# EAGLE library part ARDUINO_MEGA_R3_SHORT1 (library Dennistries-Josh)
Arduino Mega R3 Short Shield
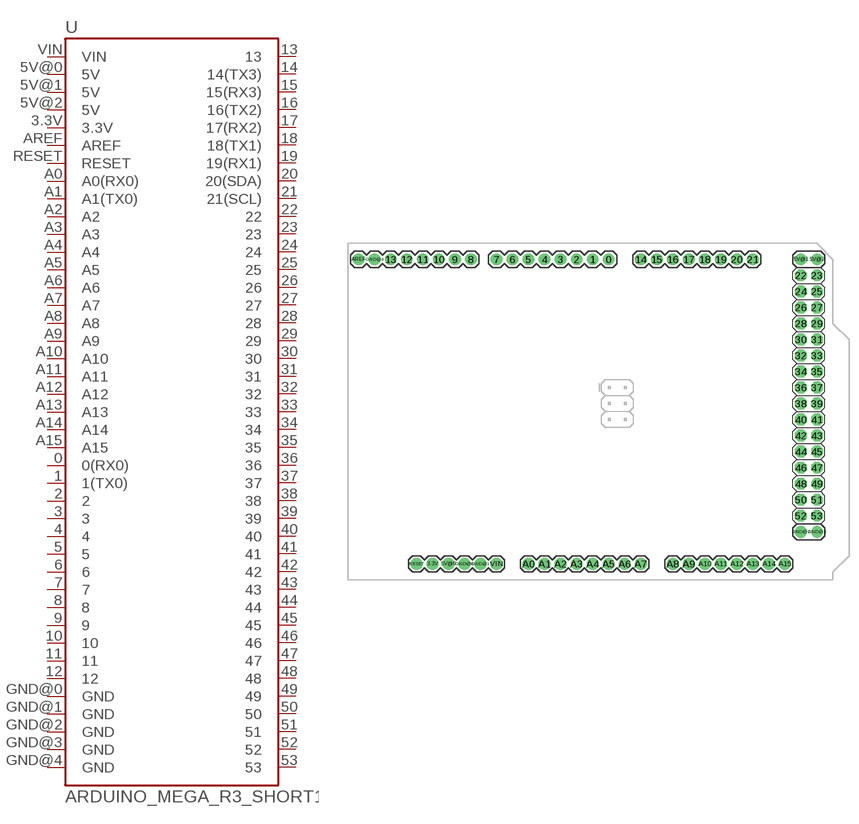
[diagram p14: symbol with the pads of ARDUINO_MEGA_SHORT; footprint ARDUINO_MEGA_SHORT]

Designator prefix -

## ARDUINO_MEGA_R3_SHORT1  [ARDUINO_MEGA_SHORT]
0  0(RX0)
1  1(TX0)
2  2
3  3
3.3V  3.3V
4  4
5  5
5V@0  5V
5V@1  5V
5V@2  5V
6  6
7  7
8  8
9  9
10  10
11  11
12  12
13  13
14  14(TX3)
15  15(RX3)
16  16(TX2)
17  17(RX2)
18  18(TX1)
19  19(RX1)
20  20(SDA)
21  21(SCL)
22  22
23  23
24  24
25  25
26  26
27  27
28  28
29  29
30  30
31  31
32  32
33  33
34  34
35  35
36  36
37  37
38  38
39  39
40  40
41  41
42  42
43  43
44  44
45  45
46  46
47  47
48  48
49  49
50  50
51  51
52  52
53  53
A0  A0(RX0)
A1  A1(TX0)
A2  A2
A3  A3
A4  A4
A5  A5
A6  A6
A7  A7
A8  A8
A9  A9
A10  A10
A11  A11
A12  A12
A13  A13
A14  A14
A15  A15
AREF  AREF
GND@0  GND
GND@1  GND
GND@2  GND
GND@3  GND
GND@4  GND
RESET  RESET
VIN  VIN

## Footprint ARDUINO_MEGA_SHORT (pad centres in mm)
drill 1.016 pad 1.88: 0 41.275,50.8; 1 38.735,50.8; 2 36.195,50.8; 3 33.655,50.8; 3.3V 13.335,2.54; 4 31.115,50.8; 5 28.575,50.8; 5V@0 15.875,2.54; 5V@1 71.755,50.8; 5V@2 74.295,50.8; 6 26.035,50.8; 7 23.495,50.8; 8 19.431,50.8; 9 16.891,50.8; 10 14.351,50.8; 11 11.811,50.8; 12 9.271,50.8; 13 6.731,50.8; 14 46.355,50.8; 15 48.895,50.8; 16 51.435,50.8; 17 53.975,50.8; 18 56.515,50.8; 19 59.055,50.8; 20 61.595,50.8; 21 64.135,50.8; A0 28.575,2.54; A1 31.115,2.54; A2 33.655,2.54; A3 36.195,2.54; A4 38.735,2.54; A5 41.275,2.54; A6 43.815,2.54; A7 46.355,2.54; A8 51.435,2.54; A9 53.975,2.54; A10 56.515,2.54; A11 59.055,2.54; A12 61.595,2.54; A13 64.135,2.54; A14 66.675,2.54; A15 69.215,2.54; AREF 1.651,50.8; GND@0 18.415,2.54; GND@1 20.955,2.54; GND@2 71.755,7.62; GND@3 74.295,7.62; GND@4 4.191,50.8; RESET 10.795,2.54; VIN 23.495,2.54
drill 1.016 pad 1.88 octagon: 22 71.755,48.26; 23 74.295,48.26; 24 71.755,45.72; 25 74.295,45.72; 26 71.755,43.18; 27 74.295,43.18; 28 71.755,40.64; 29 74.295,40.64; 30 71.755,38.1; 31 74.295,38.1; 32 71.755,35.56; 33 74.295,35.56; 34 71.755,33.02; 35 74.295,33.02; 36 71.755,30.48; 37 74.295,30.48; 38 71.755,27.94; 39 74.295,27.94; 40 71.755,25.4; 41 74.295,25.4; 42 71.755,22.86; 43 74.295,22.86; 44 71.755,20.32; 45 74.295,20.32; 46 71.755,17.78; 47 74.295,17.78; 48 71.755,15.24; 49 74.295,15.24; 50 71.755,12.7; 51 74.295,12.7; 52 71.755,10.16; 53 74.295,10.16